# Altium schematic symbol library Bourns_3362P_1_103LF.SchLib: 1 symbol
Pins are listed as number, name and electrical type; pins without a type are passive.

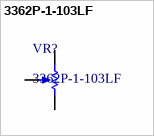
[diagram p0: symbol 3362P-1-103LF]

## 3362P-1-103LF
designator VR?
Square Trimpot(R) Trimming Potentiometer, 10 KOhm, 300 V, -55 to 125 degC, 3-Pin THD, RoHS, Tube; Tolerance: 1%; Voltage Rating: 220 mV; Resistance: 50 mohm; Power Rating: 1 W; RoHSCompliant: True; Case/Package: 1206; Min Operating Temperature: -25degC; Case Code (Imperial): 0612; Width: 1.6 mm; Max Operating Temperature: 125degC; ComponentLink1Description: Manufacturer URL; ComponentLink2Description: Datasheet; DatasheetVersion: May-16; ComponentLink1URL: http://www.bourns.com/; ComponentLink2URL: http://www.bourns.com/docs/Product-Datasheets/3362.pdf; PackageReference: 3326P; Pins: 2; Mount: Surface Mount; Length: 3.2 mm; REACH SVHC: No SVHC; Package Quantity: 5000; Height: 0.6 mm; Packaging: Tape and Reel; PackageDescription: 3-Pin Through Hole Device, Body 6.6 x 6.99 mm, Pitch 2.54 mm; Case Code (Metric): 1632; PartNumber: 3362P-1-103LF
footprint BOUR-3362P
pins: 1 CCW, 2 S, 3 CW